# EAGLE library part THROUHOLE09 (library pinhead-half-pitch)
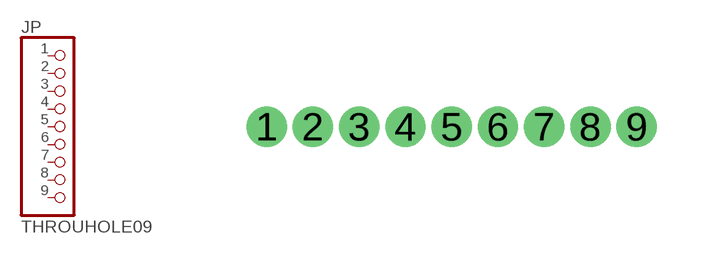
[diagram p6: symbol with the pads of THROUHOLE09; footprint THROUHOLE09]

Designator prefix JP

## THROUHOLE09  [THROUHOLE09]
1  1  pas
2  2  pas
3  3  pas
4  4  pas
5  5  pas
6  6  pas
7  7  pas
8  8  pas
9  9  pas

## Footprint THROUHOLE09 (pad centres in mm)
drill 0.6: 1 -5.08,0; 2 -3.81,0; 3 -2.54,0; 4 -1.27,0; 5 0,0; 6 1.27,0; 7 2.54,0; 8 3.81,0; 9 5.08,0